# Altium footprint library SOT23.PcbLib: 1 footprints
Each footprint in its own frame and in the unit in brackets; x right, y up, seen from the top. Pads: shape width x height; smd on the part's side, far side on the other; paste and mask are expansions set on the pad; w line width, h text height; cw(c..) or ccw(c..) is an arc to the next point about the centre after c.
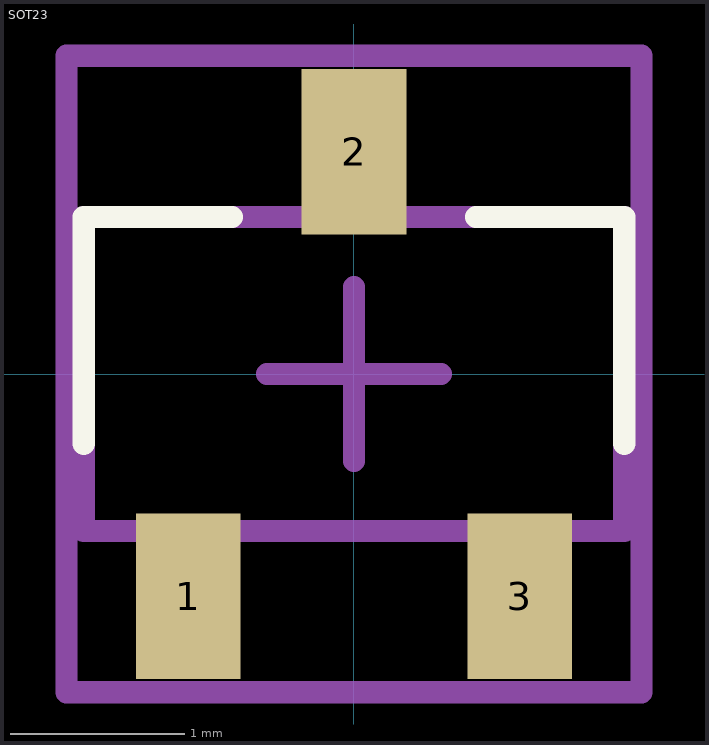
[diagram p0: the footprint, top view; thin cyan lines are the x and y axes]

## SOT23 [mm]
pads (3):
  rect 0.6x0.95 smd: 1(-0.95,-1.275) 2(0,1.275) 3(0.95,-1.275)
Top Overlay:
  lines w0.127: -1.55,-0.4 -1.55,0.9 -0.7,0.9 ; 0.7,0.9 1.55,0.9 1.55,-0.4
Mechanical 13:
  lines w0.127: -1.55,-0.9 -1.55,0.9 1.55,0.9 1.55,-0.9 -1.55,-0.9
Mechanical 15:
  lines w0.127: -0.5,0 0.5,0 ; 0,-0.5 0,0.5 ; -1.65,-1.825 -1.65,1.825 1.65,1.825 1.65,-1.825 -1.65,-1.825
3D body: height 1, standoff -0.1, extent -1.483,-1.529 1.517,1.609